# Altium schematic symbol library rfx2401c.SchLib: 1 symbol
Pins are listed as number, name and electrical type; pins without a type are passive.

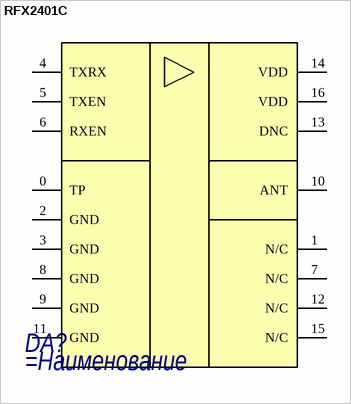
[diagram p0: symbol RFX2401C]

## RFX2401C
designator DA?
=Описание
pins: 0 TP, 1 N/C, 2 GND, 3 GND, 4 TXRX, 5 TXEN, 6 RXEN, 7 N/C, 8 GND, 9 GND, 10 ANT, 11 GND, 12 N/C, 13 DNC, 14 VDD, 15 N/C, 16 VDD